# Altium schematic symbol library Screw Hole.SchLib: 1 symbol
Pins are listed as number, name and electrical type; pins without a type are passive.

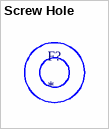
[diagram p0: symbol Screw Hole]

## Screw Hole
designator F?
Add 4 of these to your design for screw hole mounting
footprint Screw Hole